# Altium footprint library 2021-01-14_16-36-10.PcbLib: 3 footprints
Each footprint in its own frame and in the unit in brackets; x right, y up, seen from the top. Pads: shape width x height; smd on the part's side, far side on the other; paste and mask are expansions set on the pad; w line width, h text height; cw(c..) or ccw(c..) is an arc to the next point about the centre after c.
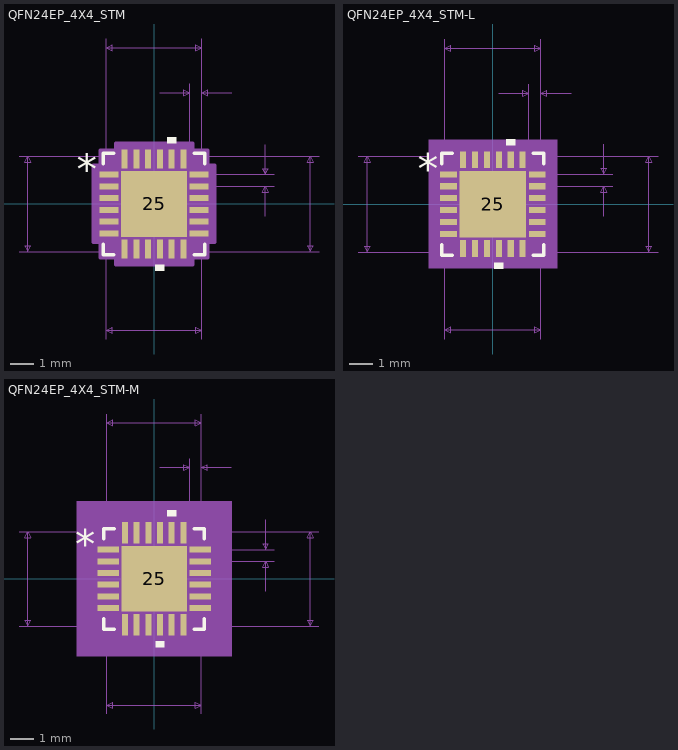
[diagram p0: the footprints below, top view; thin cyan lines are the x and y axes]

## QFN24EP_4X4_STM [mm]
pads (25):
  rect 0.808x0.255 smd paste+0 mask+0: 1(-1.915,1.25) 2(-1.915,0.75) 3(-1.915,0.25) 4(-1.915,-0.25) 5(-1.915,-0.75) 6(-1.915,-1.25) 13(1.915,-1.25) 14(1.915,-0.75) 15(1.915,-0.25) 16(1.915,0.25) 17(1.915,0.75) 18(1.915,1.25)
  rect 0.255x0.808 smd paste+0 mask+0: 7(-1.25,-1.915) 8(-0.75,-1.915) 9(-0.25,-1.915) 10(0.25,-1.915) 11(0.75,-1.915) 12(1.25,-1.915) 19(1.25,1.915) 20(0.75,1.915) 21(0.25,1.915) 22(-0.25,1.915) 23(-0.75,1.915) 24(-1.25,1.915)
  rect 2.794x2.794 smd paste-1.384 mask+0: 25(0,0)
Top Overlay:
  region: 0.44,-2.573 0.059,-2.573 0.059,-2.827 0.44,-2.827
  region: 0.941,2.573 0.56,2.573 0.56,2.827 0.941,2.827
  lines w0.152: -2.146,-1.71 -2.146,-2.146 -1.71,-2.146 ; -2.146,1.71 -2.146,2.146 -1.71,2.146 ; 1.71,-2.146 2.146,-2.146 2.146,-1.71 ; 1.71,2.146 2.146,2.146 2.146,1.71
  text "*" at -3.272,0.865 h1.27
Top Paste:
  region: -0.1,1.297 -1.297,1.297 -1.297,0.1 -0.1,0.1
  region: -0.1,-0.1 -1.297,-0.1 -1.297,-1.297 -0.1,-1.297
  region: 1.297,1.297 0.1,1.297 0.1,0.1 1.297,0.1
  region: 1.297,-0.1 0.1,-0.1 0.1,-1.297 1.297,-1.297
Mechanical 7:
  lines w0.025: -5.725,-2.019 2.019,-2.019 ; -5.725,2.019 2.019,2.019 2.019,-5.725 ; -2.019,-5.725 -2.019,2.019 ; -2.019,1.25 -2.019,6.995 ; 0.241,4.709 1.511,4.709 ; 1.25,-2.019 6.995,-2.019 ; 1.25,2.019 6.995,2.019 ; 1.511,1.25 1.511,5.09 ; 1.915,0.75 5.09,0.75 ; 1.915,1.25 5.09,1.25 ; 2.019,5.09 2.019,1.25 2.019,6.995 ; 3.289,4.709 2.019,4.709 ; 4.709,-0.52 4.709,0.75 ; 4.709,2.52 4.709,1.25 ; -5.344,-2.019 -5.344,2.019 ; -5.344,-2.019 -5.471,-1.765 -5.217,-1.765 -5.344,-2.019 ; -5.344,2.019 -5.471,1.765 -5.217,1.765 -5.344,2.019 ; -2.019,-5.344 2.019,-5.344 ; -2.019,-5.344 -1.765,-5.217 -1.765,-5.471 -2.019,-5.344 ; -2.019,6.614 2.019,6.614 ; -2.019,6.614 -1.765,6.741 -1.765,6.487 -2.019,6.614 ; 1.511,4.709 1.257,4.836 1.257,4.582 1.511,4.709 ; 2.019,-5.344 1.765,-5.217 1.765,-5.471 2.019,-5.344 ; 2.019,4.709 2.273,4.836 2.273,4.582 2.019,4.709 ; 2.019,6.614 1.765,6.741 1.765,6.487 2.019,6.614 ; 4.709,0.75 4.582,0.496 4.836,0.496 4.709,0.75 ; 4.709,1.25 4.582,1.504 4.836,1.504 4.709,1.25 ; 6.614,-2.019 6.614,2.019 ; 6.614,-2.019 6.487,-1.765 6.741,-1.765 6.614,-2.019 ; 6.614,2.019 6.487,1.765 6.741,1.765 6.614,2.019
  text "0.02in/0.5mm" at 5.217,0.683 h0.64
  text "0.02in/0.508mm" at -0.457,5.217 h0.64
  text "0.159in/4.039mm" at -2.381,7.122 h0.64
  text "0.159in/4.039mm" at 7.122,-0.318 h0.64
  text "0.159in/4.039mm" at -10.615,-0.318 h0.64
  text "0.159in/4.039mm" at -2.381,-6.487 h0.64
Mechanical 13:
  lines w0.025: -2.019,0.749 -0.749,2.019 ; -2.019,-2.019 2.019,-2.019 2.019,2.019 -2.019,2.019 -2.019,-2.019 ; -2.019,-1.402 -2.019,-1.098 -2.019,-1.402 ; -2.019,-0.902 -2.019,-0.598 -2.019,-0.902 ; -2.019,-0.402 -2.019,-0.098 -2.019,-0.402 ; -2.019,0.098 -2.019,0.402 -2.019,0.098 ; -2.019,0.598 -2.019,0.902 -2.019,0.598 ; -2.019,1.098 -2.019,1.402 -2.019,1.098 ; -1.402,-2.019 -1.098,-2.019 -1.402,-2.019 ; -1.402,2.019 -1.098,2.019 -1.402,2.019 ; -0.902,-2.019 -0.598,-2.019 -0.902,-2.019 ; -0.902,2.019 -0.598,2.019 -0.902,2.019 ; -0.402,-2.019 -0.098,-2.019 -0.402,-2.019 ; -0.402,2.019 -0.098,2.019 -0.402,2.019 ; 0.098,-2.019 0.402,-2.019 0.098,-2.019 ; 0.098,2.019 0.402,2.019 0.098,2.019 ; 0.598,-2.019 0.902,-2.019 0.598,-2.019 ; 0.598,2.019 0.902,2.019 0.598,2.019 ; 1.098,-2.019 1.402,-2.019 1.098,-2.019 ; 1.098,2.019 1.402,2.019 1.098,2.019 ; 2.019,-1.402 2.019,-1.098 2.019,-1.402 ; 2.019,-0.902 2.019,-0.598 2.019,-0.902 ; 2.019,-0.402 2.019,-0.098 2.019,-0.402 ; 2.019,0.098 2.019,0.402 2.019,0.098 ; 2.019,0.598 2.019,0.902 2.019,0.598 ; 2.019,1.098 2.019,1.402 2.019,1.098
  text "*" at -1.829,0.865 h1.27
Mechanical 15:
  region: -1.631,-2.273 -2.273,-2.273 -2.273,-1.631 -2.573,-1.631 -2.573,1.631 -2.273,1.631 -2.273,2.273 -1.631,2.273 -1.631,2.573 1.631,2.573 1.631,2.273 2.273,2.273 2.273,1.631 2.573,1.631 2.573,-1.631 2.273,-1.631 2.273,-2.273 1.631,-2.273 1.631,-2.573 -1.631,-2.573
  lines w0.152: -2.573,-1.631 -2.273,-1.631 -2.273,-2.273 -1.631,-2.273 -1.631,-2.573 1.631,-2.573 1.631,-2.273 2.273,-2.273 2.273,-1.631 2.573,-1.631 2.573,1.631 2.273,1.631 2.273,2.273 1.631,2.273 1.631,2.573 -1.631,2.573 -1.631,2.273 -2.273,2.273 -2.273,1.631 -2.573,1.631 -2.573,-1.631
3D body: height 0.25, standoff 0, extent 0,0 0.254,0.254
3D body "QFN24EP_4X4_STM.step": height 0.99, standoff 0, extent -2.019,-2.019 2.019,2.019

## QFN24EP_4X4_STM-L [mm]
pads (25):
  rect 0.708x0.255 smd paste+0 mask+0: 1(-1.865,1.25) 2(-1.865,0.75) 3(-1.865,0.25) 4(-1.865,-0.25) 5(-1.865,-0.75) 6(-1.865,-1.25) 13(1.865,-1.25) 14(1.865,-0.75) 15(1.865,-0.25) 16(1.865,0.25) 17(1.865,0.75) 18(1.865,1.25)
  rect 0.255x0.708 smd paste+0 mask+0: 7(-1.25,-1.865) 8(-0.75,-1.865) 9(-0.25,-1.865) 10(0.25,-1.865) 11(0.75,-1.865) 12(1.25,-1.865) 19(1.25,1.865) 20(0.75,1.865) 21(0.25,1.865) 22(-0.25,1.865) 23(-0.75,1.865) 24(-1.25,1.865)
  rect 2.794x2.794 smd paste-1.384 mask+0: 25(0,0)
Top Overlay:
  region: 0.44,-2.473 0.059,-2.473 0.059,-2.727 0.44,-2.727
  region: 0.941,2.473 0.56,2.473 0.56,2.727 0.941,2.727
  lines w0.152: -2.146,-1.71 -2.146,-2.146 -1.71,-2.146 ; -2.146,1.71 -2.146,2.146 -1.71,2.146 ; 1.71,-2.146 2.146,-2.146 2.146,-1.71 ; 1.71,2.146 2.146,2.146 2.146,1.71
  text "*" at -3.172,0.865 h1.27
Top Paste:
  region: -0.1,1.297 -1.297,1.297 -1.297,0.1 -0.1,0.1
  region: -0.1,-0.1 -1.297,-0.1 -1.297,-1.297 -0.1,-1.297
  region: 1.297,1.297 0.1,1.297 0.1,0.1 1.297,0.1
  region: 1.297,-0.1 0.1,-0.1 0.1,-1.297 1.297,-1.297
Mechanical 5:
  region: 2.702,-2.702 -2.702,-2.702 -2.702,2.702 2.702,2.702
Mechanical 7:
  lines w0.025: -5.675,-2.019 2.019,-2.019 ; -5.675,2.019 2.019,2.019 2.019,-5.675 ; -2.019,-5.675 -2.019,2.019 ; -2.019,1.25 -2.019,6.945 ; 0.241,4.659 1.511,4.659 ; 1.25,-2.019 6.945,-2.019 ; 1.25,2.019 6.945,2.019 ; 1.511,1.25 1.511,5.04 ; 1.865,0.75 5.04,0.75 ; 1.865,1.25 5.04,1.25 ; 2.019,5.04 2.019,1.25 2.019,6.945 ; 3.289,4.659 2.019,4.659 ; 4.659,-0.52 4.659,0.75 ; 4.659,2.52 4.659,1.25 ; -5.294,-2.019 -5.294,2.019 ; -5.294,-2.019 -5.421,-1.765 -5.167,-1.765 -5.294,-2.019 ; -5.294,2.019 -5.421,1.765 -5.167,1.765 -5.294,2.019 ; -2.019,-5.294 2.019,-5.294 ; -2.019,-5.294 -1.765,-5.167 -1.765,-5.421 -2.019,-5.294 ; -2.019,6.564 2.019,6.564 ; -2.019,6.564 -1.765,6.691 -1.765,6.437 -2.019,6.564 ; 1.511,4.659 1.257,4.786 1.257,4.532 1.511,4.659 ; 2.019,-5.294 1.765,-5.167 1.765,-5.421 2.019,-5.294 ; 2.019,4.659 2.273,4.786 2.273,4.532 2.019,4.659 ; 2.019,6.564 1.765,6.691 1.765,6.437 2.019,6.564 ; 4.659,0.75 4.532,0.496 4.786,0.496 4.659,0.75 ; 4.659,1.25 4.532,1.504 4.786,1.504 4.659,1.25 ; 6.564,-2.019 6.564,2.019 ; 6.564,-2.019 6.437,-1.765 6.691,-1.765 6.564,-2.019 ; 6.564,2.019 6.437,1.765 6.691,1.765 6.564,2.019
  text "Default Padstyle: r25_71" at -7.62,-10.093 h1.27
  text "Heat Tab Padstyle: r279_279" at -8.572,-11.617 h1.27
  text "Alt 1 Padstyle: b152_229h76" at -8.572,-14.665 h1.27
  text "Alt 2 Padstyle: b229_152h76" at -8.572,-16.189 h1.27
  text "0.02in/0.5mm" at 5.167,0.683 h0.64
  text "0.02in/0.508mm" at -0.457,5.167 h0.64
  text "0.159in/4.039mm" at -2.381,7.072 h0.64
  text "0.159in/4.039mm" at 7.072,-0.318 h0.64
  text "0.159in/4.039mm" at -10.565,-0.318 h0.64
  text "0.159in/4.039mm" at -2.381,-6.437 h0.64
Mechanical 13:
  lines w0.025: -2.019,0.749 -0.749,2.019 ; -2.019,-2.019 2.019,-2.019 2.019,2.019 -2.019,2.019 -2.019,-2.019 ; -2.019,-1.402 -2.019,-1.098 -2.019,-1.402 ; -2.019,-0.902 -2.019,-0.598 -2.019,-0.902 ; -2.019,-0.402 -2.019,-0.098 -2.019,-0.402 ; -2.019,0.098 -2.019,0.402 -2.019,0.098 ; -2.019,0.598 -2.019,0.902 -2.019,0.598 ; -2.019,1.098 -2.019,1.402 -2.019,1.098 ; -1.402,-2.019 -1.098,-2.019 -1.402,-2.019 ; -1.402,2.019 -1.098,2.019 -1.402,2.019 ; -0.902,-2.019 -0.598,-2.019 -0.902,-2.019 ; -0.902,2.019 -0.598,2.019 -0.902,2.019 ; -0.402,-2.019 -0.098,-2.019 -0.402,-2.019 ; -0.402,2.019 -0.098,2.019 -0.402,2.019 ; 0.098,-2.019 0.402,-2.019 0.098,-2.019 ; 0.098,2.019 0.402,2.019 0.098,2.019 ; 0.598,-2.019 0.902,-2.019 0.598,-2.019 ; 0.598,2.019 0.902,2.019 0.598,2.019 ; 1.098,-2.019 1.402,-2.019 1.098,-2.019 ; 1.098,2.019 1.402,2.019 1.098,2.019 ; 2.019,-1.402 2.019,-1.098 2.019,-1.402 ; 2.019,-0.902 2.019,-0.598 2.019,-0.902 ; 2.019,-0.402 2.019,-0.098 2.019,-0.402 ; 2.019,0.098 2.019,0.402 2.019,0.098 ; 2.019,0.598 2.019,0.902 2.019,0.598 ; 2.019,1.098 2.019,1.402 2.019,1.098
  text "*" at -1.829,0.865 h1.27
Mechanical 15:
  region: -1.479,-2.121 -2.121,-2.121 -2.121,-1.479 -2.321,-1.479 -2.321,1.479 -2.121,1.479 -2.121,2.121 -1.479,2.121 -1.479,2.321 1.479,2.321 1.479,2.121 2.121,2.121 2.121,1.479 2.321,1.479 2.321,-1.479 2.121,-1.479 2.121,-2.121 1.479,-2.121 1.479,-2.321 -1.479,-2.321
  lines w0.152: -2.321,-1.479 -2.121,-1.479 -2.121,-2.121 -1.479,-2.121 -1.479,-2.321 1.479,-2.321 1.479,-2.121 2.121,-2.121 2.121,-1.479 2.321,-1.479 2.321,1.479 2.121,1.479 2.121,2.121 1.479,2.121 1.479,2.321 -1.479,2.321 -1.479,2.121 -2.121,2.121 -2.121,1.479 -2.321,1.479 -2.321,-1.479
3D body: height 0.25, standoff 0, extent 0,0 0.254,0.254

## QFN24EP_4X4_STM-M [mm]
pads (25):
  rect 0.908x0.255 smd paste+0 mask+0: 1(-1.965,1.25) 2(-1.965,0.75) 3(-1.965,0.25) 4(-1.965,-0.25) 5(-1.965,-0.75) 6(-1.965,-1.25) 13(1.965,-1.25) 14(1.965,-0.75) 15(1.965,-0.25) 16(1.965,0.25) 17(1.965,0.75) 18(1.965,1.25)
  rect 0.255x0.908 smd paste+0 mask+0: 7(-1.25,-1.965) 8(-0.75,-1.965) 9(-0.25,-1.965) 10(0.25,-1.965) 11(0.75,-1.965) 12(1.25,-1.965) 19(1.25,1.965) 20(0.75,1.965) 21(0.25,1.965) 22(-0.25,1.965) 23(-0.75,1.965) 24(-1.25,1.965)
  rect 2.794x2.794 smd paste-1.384 mask+0: 25(0,0)
Top Overlay:
  region: 0.941,2.673 0.56,2.673 0.56,2.927 0.941,2.927
  region: 0.44,-2.673 0.059,-2.673 0.059,-2.927 0.44,-2.927
  lines w0.152: -2.146,-1.71 -2.146,-2.146 -1.71,-2.146 ; -2.146,1.71 -2.146,2.146 -1.71,2.146 ; 1.71,-2.146 2.146,-2.146 2.146,-1.71 ; 1.71,2.146 2.146,2.146 2.146,1.71
  text "*" at -3.372,0.865 h1.27
Top Paste:
  region: 1.297,-0.1 0.1,-0.1 0.1,-1.297 1.297,-1.297
  region: 1.297,1.297 0.1,1.297 0.1,0.1 1.297,0.1
  region: -0.1,-0.1 -1.297,-0.1 -1.297,-1.297 -0.1,-1.297
  region: -0.1,1.297 -1.297,1.297 -1.297,0.1 -0.1,0.1
Mechanical 5:
  region: 3.308,-3.308 -3.308,-3.308 -3.308,3.308 3.308,3.308
Mechanical 7:
  lines w0.025: -5.775,-2.019 2.019,-2.019 ; -5.775,2.019 2.019,2.019 2.019,-5.775 ; -2.019,-5.775 -2.019,2.019 ; -2.019,1.25 -2.019,7.045 ; 0.241,4.759 1.511,4.759 ; 1.25,-2.019 7.045,-2.019 ; 1.25,2.019 7.045,2.019 ; 1.511,1.25 1.511,5.14 ; 1.965,0.75 5.14,0.75 ; 1.965,1.25 5.14,1.25 ; 2.019,5.14 2.019,1.25 2.019,7.045 ; 3.289,4.759 2.019,4.759 ; 4.759,-0.52 4.759,0.75 ; 4.759,2.52 4.759,1.25 ; -5.394,-2.019 -5.267,-1.765 -5.521,-1.765 -5.394,-2.019 ; -5.394,-2.019 -5.394,2.019 ; -5.394,2.019 -5.267,1.765 -5.521,1.765 -5.394,2.019 ; -2.019,-5.394 -1.765,-5.521 -1.765,-5.267 -2.019,-5.394 ; -2.019,-5.394 2.019,-5.394 ; -2.019,6.664 -1.765,6.537 -1.765,6.791 -2.019,6.664 ; -2.019,6.664 2.019,6.664 ; 1.511,4.759 1.257,4.632 1.257,4.886 1.511,4.759 ; 2.019,-5.394 1.765,-5.521 1.765,-5.267 2.019,-5.394 ; 2.019,4.759 2.273,4.632 2.273,4.886 2.019,4.759 ; 2.019,6.664 1.765,6.537 1.765,6.791 2.019,6.664 ; 4.759,0.75 4.886,0.496 4.632,0.496 4.759,0.75 ; 4.759,1.25 4.886,1.504 4.632,1.504 4.759,1.25 ; 6.664,-2.019 6.791,-1.765 6.537,-1.765 6.664,-2.019 ; 6.664,-2.019 6.664,2.019 ; 6.664,2.019 6.791,1.765 6.537,1.765 6.664,2.019
  text "0.159in/4.039mm" at -2.381,-6.537 h0.64
  text "0.159in/4.039mm" at -10.665,-0.318 h0.64
  text "0.159in/4.039mm" at 7.172,-0.318 h0.64
  text "0.159in/4.039mm" at -2.381,7.172 h0.64
  text "0.02in/0.508mm" at -0.457,5.267 h0.64
  text "0.02in/0.5mm" at 5.267,0.683 h0.64
  text "Alt 2 Padstyle: b229_152h76" at -8.572,-16.389 h1.27
  text "Alt 1 Padstyle: b152_229h76" at -8.572,-14.865 h1.27
  text "Heat Tab Padstyle: r279_279" at -8.572,-11.817 h1.27
  text "Default Padstyle: r25_91" at -7.62,-10.293 h1.27
Mechanical 13:
  lines w0.025: -2.019,0.749 -0.749,2.019 ; -2.019,-2.019 -2.019,2.019 2.019,2.019 2.019,-2.019 -2.019,-2.019 ; -2.019,-1.402 -2.019,-1.098 -2.019,-1.402 ; -2.019,-0.902 -2.019,-0.598 -2.019,-0.902 ; -2.019,-0.402 -2.019,-0.098 -2.019,-0.402 ; -2.019,0.098 -2.019,0.402 -2.019,0.098 ; -2.019,0.598 -2.019,0.902 -2.019,0.598 ; -2.019,1.098 -2.019,1.402 -2.019,1.098 ; -1.402,-2.019 -1.098,-2.019 -1.402,-2.019 ; -1.402,2.019 -1.098,2.019 -1.402,2.019 ; -0.902,-2.019 -0.598,-2.019 -0.902,-2.019 ; -0.902,2.019 -0.598,2.019 -0.902,2.019 ; -0.402,-2.019 -0.098,-2.019 -0.402,-2.019 ; -0.402,2.019 -0.098,2.019 -0.402,2.019 ; 0.098,-2.019 0.402,-2.019 0.098,-2.019 ; 0.098,2.019 0.402,2.019 0.098,2.019 ; 0.598,-2.019 0.902,-2.019 0.598,-2.019 ; 0.598,2.019 0.902,2.019 0.598,2.019 ; 1.098,-2.019 1.402,-2.019 1.098,-2.019 ; 1.098,2.019 1.402,2.019 1.098,2.019 ; 2.019,-1.402 2.019,-1.098 2.019,-1.402 ; 2.019,-0.902 2.019,-0.598 2.019,-0.902 ; 2.019,-0.402 2.019,-0.098 2.019,-0.402 ; 2.019,0.098 2.019,0.402 2.019,0.098 ; 2.019,0.598 2.019,0.902 2.019,0.598 ; 2.019,1.098 2.019,1.402 2.019,1.098
  text "*" at -1.829,0.865 h1.27
Mechanical 15:
  region: -1.885,-2.527 -2.527,-2.527 -2.527,-1.885 -2.927,-1.885 -2.927,1.885 -2.527,1.885 -2.527,2.527 -1.885,2.527 -1.885,2.927 1.885,2.927 1.885,2.527 2.527,2.527 2.527,1.885 2.927,1.885 2.927,-1.885 2.527,-1.885 2.527,-2.527 1.885,-2.527 1.885,-2.927 -1.885,-2.927
  lines w0.152: -2.927,-1.885 -2.927,1.885 -2.527,1.885 -2.527,2.527 -1.885,2.527 -1.885,2.927 1.885,2.927 1.885,2.527 2.527,2.527 2.527,1.885 2.927,1.885 2.927,-1.885 2.527,-1.885 2.527,-2.527 1.885,-2.527 1.885,-2.927 -1.885,-2.927 -1.885,-2.527 -2.527,-2.527 -2.527,-1.885 -2.927,-1.885
3D body: height 0.25, standoff 0, extent 0,0 0.254,0.254